# Altium schematic symbol library SCH - ARM CORTEX - NXP LPC80X 16PIN.SchLib: 1 symbol
Pins are listed as number, name and electrical type; pins without a type are passive.

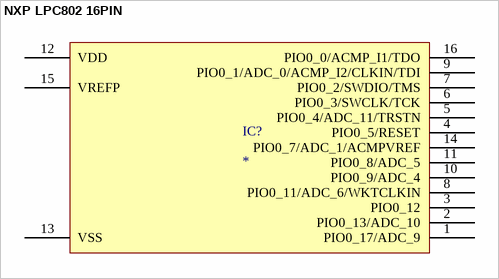
[diagram p0: symbol NXP LPC802 16PIN]

## NXP LPC802 16PIN
designator IC?
footprint NXP TSSOP-16 (TSSOP, 16-Leads, Body 5.00x4.40mm, Pitch 0.65mm, IPC Medium Density)
pins: 1 PIO0_17/ADC_9, 2 PIO0_13/ADC_10, 3 PIO0_12, 4 PIO0_5/RESET, 5 PIO0_4/ADC_11/TRSTN, 6 PIO0_3/SWCLK/TCK, 7 PIO0_2/SWDIO/TMS, 8 PIO0_11/ADC_6/WKTCLKIN, 9 PIO0_1/ADC_0/ACMP_I2/CLKIN/TDI, 10 PIO0_9/ADC_4, 11 PIO0_8/ADC_5, 12 VDD, 13 VSS, 14 PIO0_7/ADC_1/ACMPVREF, 15 VREFP, 16 PIO0_0/ACMP_I1/TDO